# EAGLE library part LSM303AHTR (library LSM303AHTR)
Accelerometers Ultra-compact high-performance e-compass 3D accelerometer and 3D magnetometer module Source: Datasheet <https://componentsearchengine.com/Datasheets/1/LSM303AHTR.pdf>
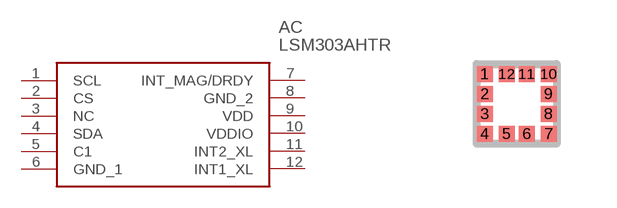
[diagram p0: symbol with the pads of LGA-12; footprint LGA-12]

Designator prefix AC

## LSM303AHTR (Arrow_Part_Number: LSM303AHTR; Arrow_Price-Stock: https://www.arrow.com/en/products/lsm303ahtr/stmicroelectronics?region=nac; Description: Accelerometers Ultra-compact high-performance e-compass 3D accelerometer and 3D magnetometer module; Height: mm; Manufacturer_Name: STMicroelectronics; Manufacturer_Part_Number: LSM303AHTR; Mouser_Part_Number: 511-LSM303AHTR; Mouser_Price-Stock: https://www.mouser.co.uk/ProductDetail/STMicroelectronics/LSM303AHTR?qs=FNcb6ahWXRzM34XwAoZA0A%3D%3D)  [LGA-12]
1  SCL
2  CS
3  NC  nc
4  SDA
5  C1
6  GND_1
7  INT_MAG/DRDY
8  GND_2
9  VDD
10  VDDIO
11  INT2_XL
12  INT1_XL

## Footprint LGA-12 (pad centres in mm)
LGA-12
smd 0.4 x 0.4: 1 -0.8,0.75; 2 -0.8,0.25; 3 -0.8,-0.25; 4 -0.8,-0.75; 5 -0.25,-0.75; 6 0.25,-0.75; 7 0.8,-0.75; 8 0.8,-0.25; 9 0.8,0.25; 10 0.8,0.75; 11 0.25,0.75; 12 -0.25,0.75